# Altium footprint library opo_general.PcbLib: 43 footprints (part 3 of 3)
Each footprint in its own frame and in the unit in brackets; x right, y up, seen from the top. Pads: shape width x height; smd on the part's side, far side on the other; paste and mask are expansions set on the pad; w line width, h text height; cw(c..) or ccw(c..) is an arc to the next point about the centre after c.
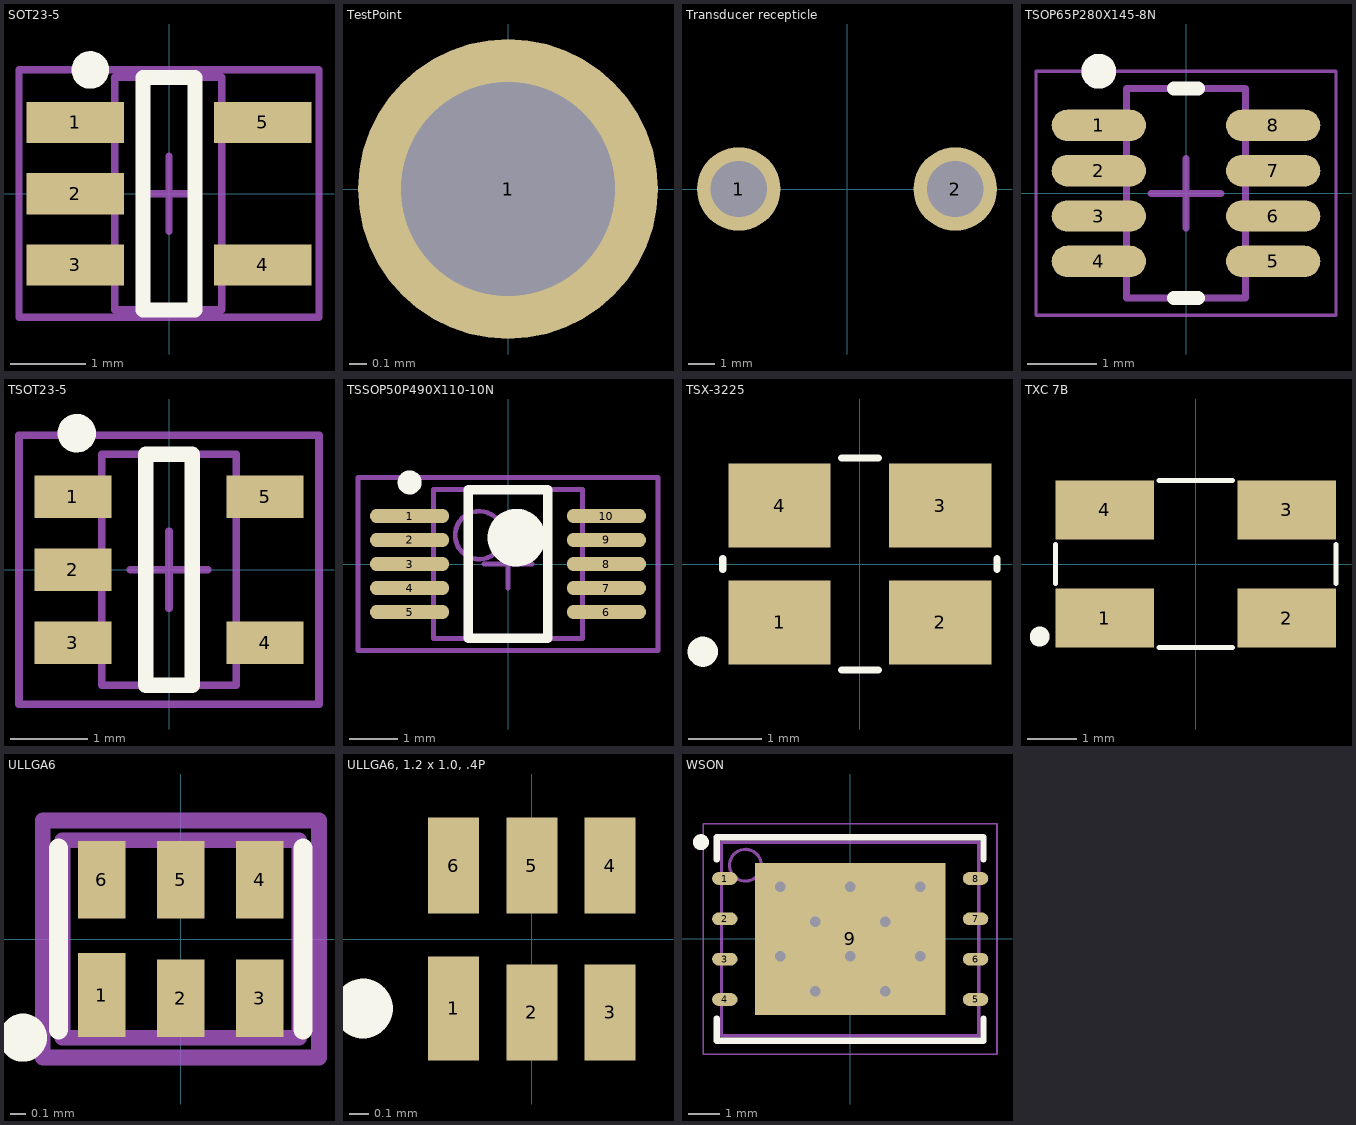
[diagram p2: the footprints below, top view; thin cyan lines are the x and y axes]

## SOT23-5 [mm] "SOT23, 5-Leads, Body 2.9x1.6mm, Pitch 0.95mm, Lead Span 2.8mm, IPC High Density"
height 1.45
pads (5):
  rect 1.3x0.55 smd: 1(-1.25,0.95) 2(-1.25,0) 3(-1.25,-0.95) 4(1.25,-0.95) 5(1.25,0.95)
Top Overlay:
  circle w0.25: c-1.05,1.65 r0.125
  lines w0.2: -0.35,-1.55 -0.35,1.55 0.35,1.55 0.35,-1.55 -0.35,-1.55
Mechanical 13:
  lines w0.1: -0.725,-1.55 0.7,-1.55 0.7,1.55 -0.725,1.55 -0.725,-1.55
Mechanical 15:
  lines w0.1: -0.375,0 0.35,0 ; 0,-0.5 0,0.5 ; -2,-1.65 2,-1.65 2,1.65 -2,1.65 -2,-1.65
3D body: height 1.45, standoff 0, extent -0.675,-1.5 0.65,1.5

## TestPoint [mm]
pads (1):
  round 1.68 hole 1.2: 1(0,0)
3D body: height 3.05, standoff 0, extent -1.26,-1.267 1.27,1.268
3D body: height 4.57, standoff 3.3, extent -0.628,-0.632 0.635,0.632

## Transducer recepticle [mm] "Transducer with Pin Recepticle"
pads (2):
  round 3.2 hole 2.15: 1(-4.15,0) 2(4.15,0)
3D body: height 14, standoff 5, extent -6.449,-6.487 6.5,6.487
3D body: height 5, standoff -3, extent -4.894,-0.748 -3.4,0.749
3D body: height 5, standoff -3, extent 3.406,-0.748 4.9,0.749

## TSOP65P280X145-8N [mm] "TSOP, 8-Leads, Body 2.90x1.60mm, Pitch 0.65mm, IPC Medium Density"
height 1.45
pads (8):
  oval 1.35x0.45 smd: 1(-1.25,0.975) 2(-1.25,0.325) 3(-1.25,-0.325) 4(-1.25,-0.975) 5(1.25,-0.975) 6(1.25,-0.325) 7(1.25,0.325) 8(1.25,0.975)
Top Overlay:
  circle w0.25: c-1.25,1.75 r0.125
  lines w0.2: -0.175,-1.5 0.175,-1.5 ; -0.175,1.5 0.175,1.5
Mechanical 13:
  lines w0.1: -0.85,-1.5 0.85,-1.5 0.85,1.5 -0.85,1.5 -0.85,-1.5
Mechanical 15:
  lines w0.05: -2.15,-1.75 2.15,-1.75 2.15,1.75 -2.15,1.75 -2.15,-1.75
  lines w0.1: -0.5,0 0.5,0 ; 0,-0.5 0,0.5
3D body: height 1.45, standoff 0.15, extent -0.85,-1.5 0.85,1.5

## TSOT23-5 [mm] "SOT23, 6-Leads, Body 3.0x2.9mm (max), Pitch 0.95mm, IPC Medium Density"
height 1
pads (5):
  rect 1x0.55 smd: 1(-1.25,0.95) 2(-1.25,0) 3(-1.25,-0.95) 4(1.25,-0.95) 5(1.25,0.95)
Top Overlay:
  circle w0.25: c-1.2,1.775 r0.125
  lines w0.2: -0.3,-1.5 0.3,-1.5 0.3,1.5 -0.3,1.5 -0.3,-1.5
Mechanical 13:
  lines w0.1: -0.875,-1.5 -0.875,1.5 0.875,1.5 0.875,-1.5 -0.875,-1.5
Mechanical 15:
  lines w0.1: -0.5,0 0.5,0 ; 0,-0.5 0,0.5 ; -1.95,-1.75 -1.95,1.75 1.95,1.75 1.95,-1.75 -1.95,-1.75
3D body: height 1, standoff 0.1, extent -0.875,-1.5 0.875,1.5

## TSSOP50P490X110-10N [mm] "TSSOP, 10-Leads, Body 3.1x3.1mm (max), Pitch 0.50mm, IPC Medium Density"
height 1.1
pads (10):
  oval 1.65x0.3 smd: 1(-2.05,1) 2(-2.05,0.5) 3(-2.05,0) 4(-2.05,-0.5) 5(-2.05,-1) 6(2.05,-1) 7(2.05,-0.5) 8(2.05,0) 9(2.05,0.5) 10(2.05,1)
Top Overlay:
  circle w0.6: c0.175,0.55 r0.3
  circle w0.25: c-2.05,1.7 r0.125
  lines w0.2: -0.825,-1.55 0.825,-1.55 0.825,1.55 -0.825,1.55 -0.825,-1.55
Mechanical 13:
  circle w0.1: c-0.6,0.6 r0.5
  lines w0.1: -1.55,-1.55 1.55,-1.55 1.55,1.55 -1.55,1.55 -1.55,-1.55
Mechanical 15:
  lines w0.1: -0.5,0 0.5,0 ; 0,-0.5 0,0.5 ; -3.125,-1.8 3.125,-1.8 3.125,1.8 -3.125,1.8 -3.125,-1.8
3D body: height 1.1, standoff 0.1, extent -1.55,-1.55 1.55,1.55

## TSX-3225 [mm]
pads (4):
  rect 1.4x1.15 smd: 1(-1.1,-0.8) 2(1.1,-0.8) 3(1.1,0.8) 4(-1.1,0.8)
Top Overlay:
  circle w0.254: c-2.15,-1.2 r0.079
  lines w0.1: -1.875,-0.075 -1.875,0.075 ; -0.25,-1.45 0.25,-1.45 ; -0.25,1.45 0.25,1.45 ; 1.875,-0.075 1.875,0.075
3D body: height 0.6, standoff 0, extent -1.6,-1.25 1.6,1.25

## TXC 7B [mm] "TXC 7B series"
pads (4):
  rect 2x1.2 smd: 1(-1.85,-1.1) 2(1.85,-1.1) 3(1.85,1.1) 4(-1.85,1.1)
Top Overlay:
  circle w0.254: c-3.175,-1.475 r0.075
  lines w0.1: -2.85,-0.4 -2.85,0.4 ; -0.75,-1.7 0.75,-1.7 ; -0.75,1.7 0.75,1.7 ; 2.85,-0.4 2.85,0.4
3D body: height 0.9, standoff 0, extent -2.5,-1.6 2.5,1.6

## ULLGA6 [mm] "ULLGA6 1.45x1.0, 0.5P  CASE 613AF"
pads (6):
  rect 0.3x0.53 smd: 1(-0.5,-0.355)
  rect 0.3x0.49 smd: 2(0,-0.375) 3(0.5,-0.375) 4(0.5,0.375) 5(0,0.375) 6(-0.5,0.375)
Top Overlay:
  circle w0.254: c-1,-0.625 r0.025
  lines w0.12: -0.775,-0.575 -0.775,0.575 ; 0.775,-0.575 0.775,0.575
Mechanical 13:
  lines w0.1: -0.75,-0.625 0.75,-0.625 0.75,0.625 -0.75,0.625 -0.75,-0.625
Mechanical 15:
  lines w0.1: -0.875,-0.75 0.875,-0.75 0.875,0.75 -0.875,0.75 -0.875,-0.75
3D body: height 0.4, standoff 0, extent -0.725,-0.5 0.725,0.5

## ULLGA6, 1.2 x 1.0, .4P [mm]
pads (6):
  rect 0.26x0.53 smd: 1(-0.4,-0.355)
  rect 0.26x0.49 smd: 2(0,-0.375) 3(0.4,-0.375) 4(0.4,0.375) 5(0,0.375) 6(-0.4,0.375)
Top Overlay:
  circle w0.254: c-0.864,-0.356 r0.025
3D body: height 0.4, standoff 0, extent -0.6,-0.5 0.6,0.5

## WSON [mm] "QFN, 8-Leads, Body 8.00x6.00mm, Pitch 1.27mm, Thermal Pad 6.00x4.80mm, IPC Medium Density"
height 0.8
pads (9):
  oval 0.8x0.4 smd: 1(-3.95,1.905) 2(-3.95,0.635) 3(-3.95,-0.635) 4(-3.95,-1.905) 5(3.95,-1.905) 6(3.95,-0.635) 7(3.95,0.635) 8(3.95,1.905)
  rect 6x4.8 smd: 9(0,0)
via -2.2,-0.55 diameter 0.686 hole 0.33
via -2.2,1.65 diameter 0.686 hole 0.33
via -1.1,-1.65 diameter 0.686 hole 0.33
via -1.1,0.55 diameter 0.686 hole 0.33
via 0,-0.55 diameter 0.686 hole 0.33
via 0,1.65 diameter 0.686 hole 0.33
via 1.1,-1.65 diameter 0.686 hole 0.33
via 1.1,0.55 diameter 0.686 hole 0.33
via 2.2,-0.55 diameter 0.686 hole 0.33
via 2.2,1.65 diameter 0.686 hole 0.33
Top Overlay:
  circle w0.25: c-4.7,3.05 r0.125
  lines w0.2: -4.2,-2.505 -4.2,-3.2 0.035,-3.2 ; -4.2,2.505 -4.2,3.2 0.035,3.2 ; -0.035,-3.2 4.2,-3.2 4.2,-2.505 ; -0.035,3.2 4.2,3.2 4.2,2.505
Mechanical 13:
  circle w0.1: c-3.3,2.325 r0.5
  lines w0.1: -4.05,-3.05 -4.05,3.05 4.05,3.05 4.05,-3.05 -4.05,-3.05
Mechanical 15:
  lines w0.05: -4.625,-3.625 -4.625,3.625 4.625,3.625 4.625,-3.625 -4.625,-3.625
  lines w0.1: -0.5,0 0.5,0 ; 0,-0.5 0,0.5
3D body: height 0.8, standoff 0, extent -4.05,-3.05 4.05,3.05